# Altium footprint library CONN_FPC.PcbLib: 37 footprints (part 3 of 3)
Each footprint in its own frame and in the unit in brackets; x right, y up, seen from the top. Pads: shape width x height; smd on the part's side, far side on the other; paste and mask are expansions set on the pad; w line width, h text height; cw(c..) or ccw(c..) is an arc to the next point about the centre after c.
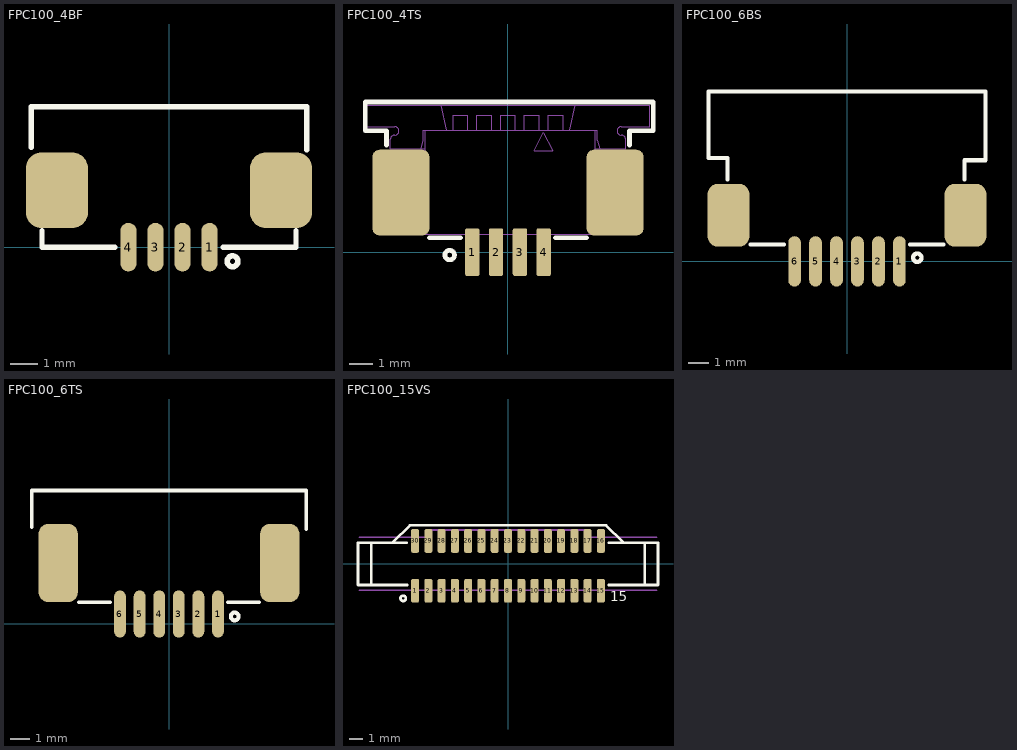
[diagram p2: the footprints below, top view; thin cyan lines are the x and y axes]

## FPC100_4BF [mm] "FPC, 1mm, Horizental, Bot. Contact, front flip lock, Molex 200529-0040"
height 0.8
pads (6):
  oval 0.6x1.8 smd: 1(1.5,0) 2(0.5,0) 3(-0.5,0) 4(-1.5,0)
  rrect50% 2.3x2.8 smd: ""(-4.15,2.1) ""(4.15,2.1)
Top Overlay:
  circle w0.2: c2.35,-0.525 r0.2
  lines w0.2: -5.1,3.7 -5.1,5.2 5.1,5.2 5.1,3.6 ; -4.7,0.6 -4.7,0 -2,0 ; 2,0 4.7,0 4.7,0.6
3D body "2005290040.stp": height 1.93, standoff -0.03, extent -5,-0.25 5,5.05

## FPC100_4TS [mm] "FPC, 1mm pitch, Top Contact, Slide Lock, TE Connectivity 4-pin ZIF connector TE84953-4"
height 2.74
pads (6):
  rrect25% 0.6x2 smd: 1(-1.5,0) 2(-0.5,0) 3(0.5,0) 4(1.5,0)
  rrect25% 2.4x3.6 smd: ""(-4.5,2.5) ""(4.5,2.5)
Top Overlay:
  circle w0.2: c-2.45,-0.125 r0.2
  lines w0.2: -5.1,4.5 -5.1,5.1 -6,5.1 -6,6.3 6.1,6.3 6.1,5.1 5.1,5.1 5.1,4.5 ; -3.3,0.6 -2,0.6 ; 2,0.6 3.3,0.6
Mechanical 13:
  lines w0.05: -4.56,0.75 -4.56,4.25 -3.47,4.25 -3.47,5.12 ; -4.56,3.2 -4.18,3.2 ; -4.28,4.25 -4.18,3.877 -4.18,2.98 -3.93,2.98 ; -4.229,4.25 -4.232,4.26 -5.072,4.26 ccw(c-5.072,4.16) -5.172,4.16 -5.172,3.859 ccw(c-5.072,3.859) -5.072,3.759 -4.762,3.759 cw(c-4.762,3.659) -4.662,3.659 -4.662,3.357 cw(c-4.762,3.357) -4.762,3.257 -5.072,3.257 ccw(c-5.072,3.157) -5.172,3.157 -5.172,2.856 ccw(c-5.072,2.856) -5.072,2.756 -4.762,2.756 cw(c-4.762,2.656) -4.662,2.656 -4.662,2.355 cw(c-4.762,2.355) -4.762,2.255 -5.072,2.255 ccw(c-5.072,2.155) -5.172,2.155 -5.172,1.853 ccw(c-5.072,1.853) -5.072,1.753 -4.762,1.753 cw(c-4.762,1.653) -4.662,1.653 -4.662,1.352 cw(c-4.762,1.352) -4.762,1.252 -5.072,1.252 ccw(c-5.072,1.152) -5.172,1.152 -5.172,0.85 ccw(c-5.072,0.85) -5.072,0.75 5.072,0.75 ccw(c5.072,0.85) 5.172,0.85 5.172,1.152 ccw(c5.072,1.152) 5.072,1.252 4.762,1.252 cw(c4.762,1.352) 4.662,1.352 4.662,1.653 cw(c4.762,1.653) 4.762,1.753 5.072,1.753 ccw(c5.072,1.853) 5.172,1.853 5.172,2.155 ccw(c5.072,2.155) 5.072,2.255 4.762,2.255 cw(c4.762,2.355) 4.662,2.355 4.662,2.656 cw(c4.762,2.656) 4.762,2.756 5.072,2.756 ccw(c5.072,2.856) 5.172,2.856 5.172,3.157 ccw(c5.072,3.157) 5.072,3.257 4.762,3.257 cw(c4.762,3.357) 4.662,3.357 4.662,3.659 cw(c4.762,3.659) 4.762,3.759 5.072,3.759 ccw(c5.072,3.859) 5.172,3.859 5.172,4.16 ccw(c5.072,4.16) 5.072,4.26 3.982,4.26 3.982,4.25 ; -3.93,0.75 -3.93,3.877 -3.83,4.25 ; -3.646,4.33 -3.55,4.69 -3.55,5.12 3.75,5.12 3.75,4.69 3.847,4.33 ; -3.47,4.33 -4.94,4.33 -4.94,4.73 cw(c-4.76,4.73) -4.76,4.91 ccw(c-4.76,5.09) -4.76,5.27 -5.96,5.27 -5.96,6.16 5.96,6.16 5.96,5.27 4.76,5.27 ccw(c4.76,5.09) 4.76,4.91 cw(c4.76,4.73) 4.94,4.73 4.94,4.33 3.67,4.33 ; -2.82,6.16 -2.59,5.12 ; -2.309,5.12 -2.309,5.75 -1.689,5.75 -1.689,5.12 ; -1.604,-0.26 -1.404,-0.26 ; -1.604,0.11 -1.404,0.11 ; -1.604,0.24 -1.404,0.24 ; -1.604,0.75 -1.604,-0.39 -1.404,-0.39 -1.404,0.75 ; -1.309,5.12 -1.309,5.75 -0.689,5.75 -0.689,5.12 ; -0.604,-0.26 -0.404,-0.26 ; -0.604,0.11 -0.404,0.11 ; -0.604,0.24 -0.404,0.24 ; -0.604,0.75 -0.604,-0.39 -0.404,-0.39 -0.404,0.75 ; -0.309,5.12 -0.309,5.75 0.311,5.75 0.311,5.12 ; 0.396,-0.26 0.596,-0.26 ; 0.396,0.11 0.596,0.11 ; 0.396,0.24 0.596,0.24 ; 0.396,0.75 0.396,-0.39 0.596,-0.39 0.596,0.75 ; 0.691,5.12 0.691,5.75 1.311,5.75 1.311,5.12 ; 1.396,-0.26 1.596,-0.26 ; 1.396,0.11 1.596,0.11 ; 1.396,0.24 1.596,0.24 ; 1.396,0.75 1.396,-0.39 1.596,-0.39 1.596,0.75 ; 1.691,5.12 1.691,5.75 2.311,5.75 2.311,5.12 ; 2.59,5.12 2.82,6.16 ; 3.67,5.12 3.67,4.25 4.56,4.25 4.56,0.75 ; 3.83,0.75 3.93,1.123 3.93,4.25 ; 3.93,2.02 4.56,2.02 ; 4.18,2.02 4.18,1.123 4.28,0.75 ; 4.18,4.25 4.18,4.26 ; 1.111,4.25 1.871,4.25 1.491,5.01 1.111,4.25
3D body "ZIF Conn TE 84953-4.STEP": height 2.58, standoff 0, extent -5.96,-0.39 5.96,6.16

## FPC100_6BS [mm] "FPC 6pin pitch: 1.0mm, Bot. Contact, Slide lock, Molex 52271-0679"
height 3
pads (8):
  oval 0.6x2.4 smd: 1(2.5,0) 2(1.5,0) 3(0.5,0) 4(-0.5,0) 5(-1.5,0) 6(-2.5,0)
  rrect50% 2x3 smd: ""(-5.65,2.2) ""(5.65,2.2)
Top Overlay:
  circle w0.2: c3.35,0.175 r0.2
  lines w0.2: -5.7,3.9 -5.7,4.925 -6.6,4.925 -6.6,8.1 6.6,8.1 6.6,4.825 5.6,4.825 5.6,3.9 ; -4.6,0.8 -3,0.8 ; 3,0.8 4.6,0.8
3D body "fpc100_6_ts.stp": height 1.26, standoff -1.32, extent -20.365,5.79 -6.435,12.34
3D body "522710679.stp": height 3, standoff 0, extent -6.5,-0.7 6.5,8

## FPC100_6TS [mm] "FPC 6pin pitch: 1.0mm, Top Contact, Slide lock"
height 3
pads (8):
  oval 0.6x2.4 smd: 1(2.5,0.5) 2(1.5,0.5) 3(0.5,0.5) 4(-0.5,0.5) 5(-1.5,0.5) 6(-2.5,0.5)
  rrect50% 2x4 smd: ""(-5.65,3.1) ""(5.65,3.1)
Top Overlay:
  circle w0.2: c3.35,0.375 r0.2
  lines w0.2: -7,4.925 -7,6.8 7,6.8 7,4.825 ; -4.6,1.1 -3,1.1 ; 3,1.1 4.6,1.1
3D body "fpc100_6_ts.stp": height 2.56, standoff -0.02, extent -6.965,0.19 6.965,6.74

## FPC100_15VS [mm] "TE 1-1734248-5, Vertical 1Sided, Slide lock"
height 2.3
pads (30):
  rrect50% 0.6x1.8 smd: 1(-7,-2.025) 2(-6,-2.025) 3(-5,-2.025) 4(-4,-2.025) 5(-3,-2.025) 6(-2,-2.025) 7(-1,-2.025) 8(0,-2.025) 9(1,-2.025) 10(2,-2.025) 11(3,-2.025) 12(4,-2.025) 13(5,-2.025) 14(6,-2.025) 15(7,-2.025) 16(7,1.725) 17(6,1.725) 18(5,1.725) 19(4,1.725) 20(3,1.725) 21(2,1.725) 22(1,1.725) 23(0,1.725) 24(-1,1.725) 25(-2,1.725) 26(-3,1.725) 27(-4,1.725) 28(-5,1.725) 29(-6,1.725) 30(-7,1.725)
Top Overlay:
  circle w0.2: c-7.9,-2.6 r0.2
  lines w0.2: -10.3,-1.6 -10.3,1.6 ; -8.65,1.65 -7.4,2.9 7.4,2.9 8.65,1.65 ; -7.65,1.6 -11.3,1.6 -11.3,-1.6 -7.6,-1.6 ; 7.6,-1.6 11.3,-1.6 11.3,1.6 7.6,1.6 ; 10.3,-1.6 10.3,1.6
  text "15" at 7.7,-2.8 h0.75
Mechanical 4:
  lines w0.127: -6,2 -11.2,2 -6,2 ; -6,2 -6,2.55 ; -6,2 -6,2.55 ; -6,2.55 6,2.55 ; -6,2.55 6,2.55 ; 6,2 11.2,2 6,2 ; 6,2 6,2.55 ; 6,2 6,2.55 ; -11.2,-2 11.2,-2 -11.2,-2
3D body "1-1734248-5.stp": height 5.63, standoff -0.06, extent -11.2,-2.4 11.2,2.45